# Altium footprint library TerminalBlock_Phoenix.PcbLib: 114 footprints (part 2 of 8)
Each footprint in its own frame and in the unit in brackets; x right, y up, seen from the top. Pads: shape width x height; smd on the part's side, far side on the other; paste and mask are expansions set on the pad; w line width, h text height; cw(c..) or ccw(c..) is an arc to the next point about the centre after c.
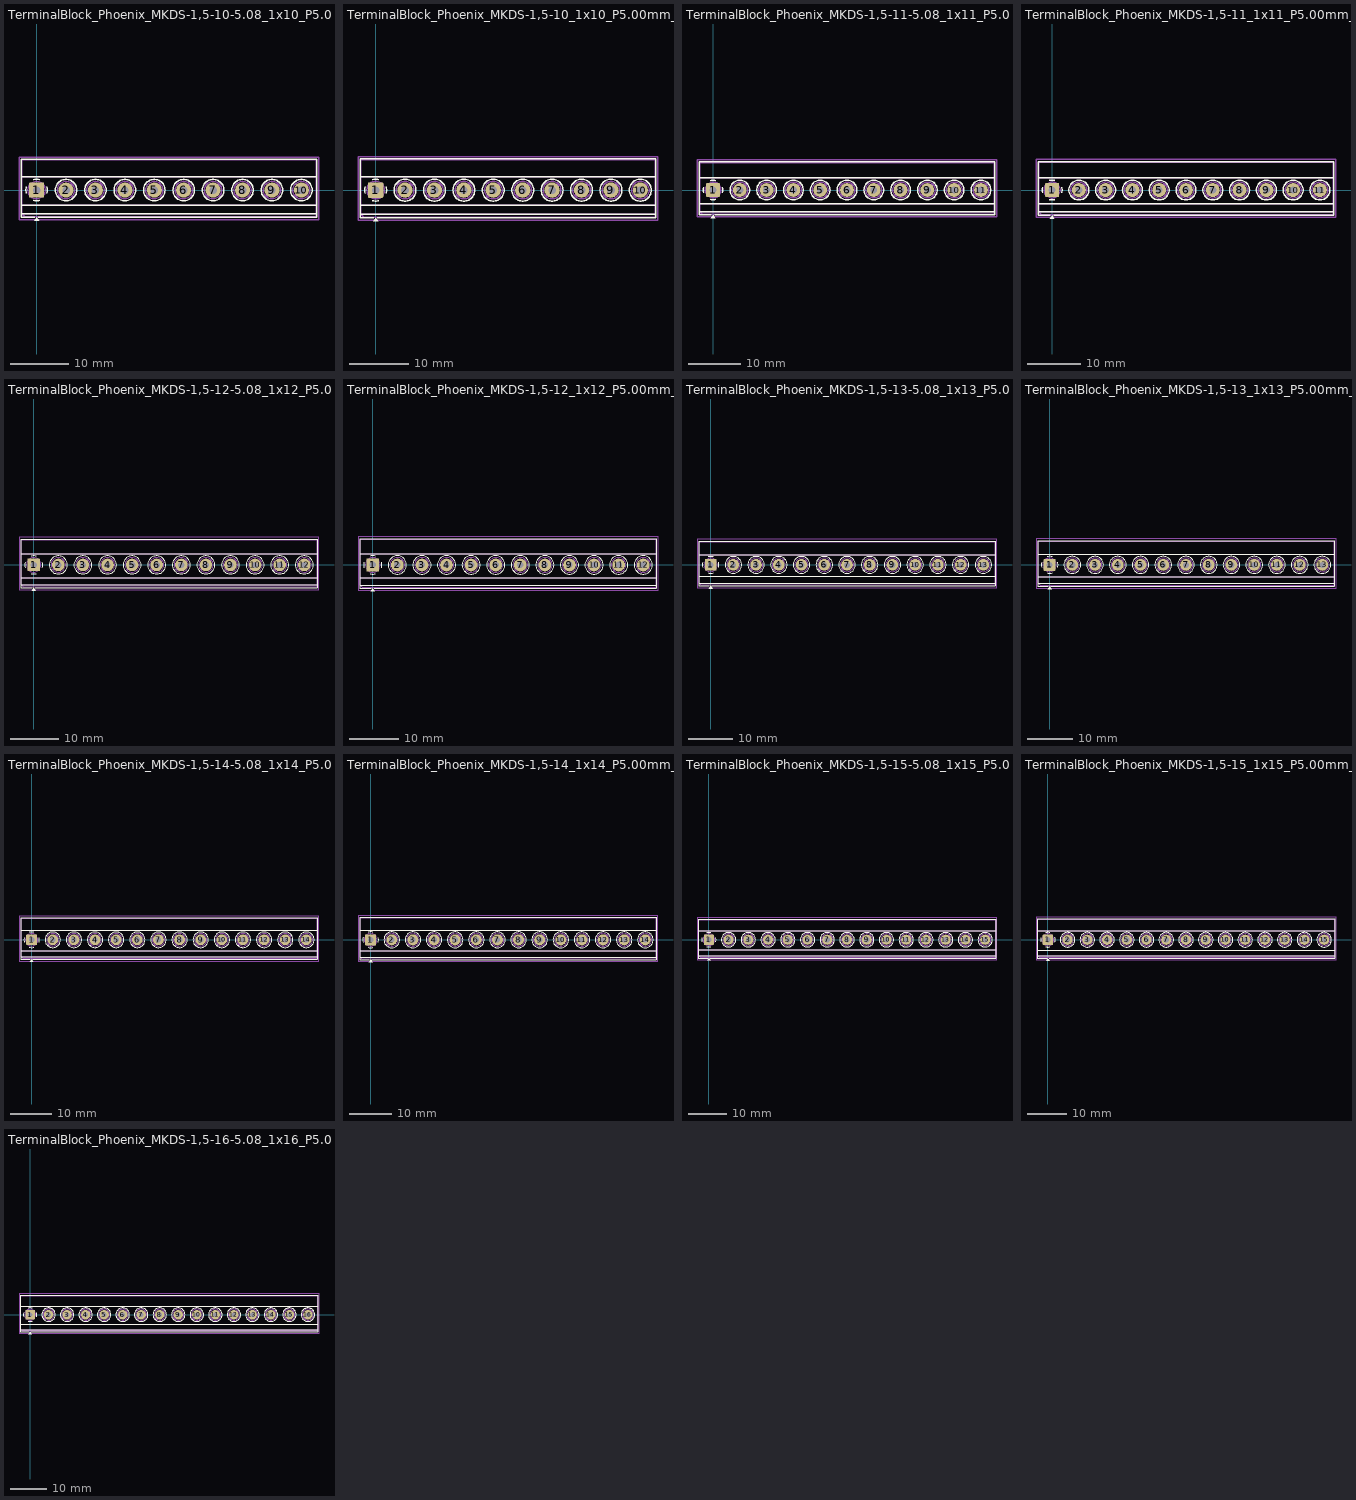
[diagram p1: the footprints below, top view; thin cyan lines are the x and y axes]

## TerminalBlock_Phoenix_MKDS-1,5-10-5.08_1x10_P5.08mm_Horizontal [mm]
pads (10):
  rrect10% 2.6x2.6 hole 1.3: 1(0,0)
  round 2.6 hole 1.3: 2(5.08,0) 3(10.16,0) 4(15.24,0) 5(20.32,0) 6(25.4,0) 7(30.48,0) 8(35.56,0) 9(40.64,0) 10(45.72,0)
F.SilkS:
  circle w0.254: c5.08,0 r1.86
  circle w0.254: c10.16,0 r1.86
  circle w0.254: c15.24,0 r1.86
  circle w0.254: c20.32,0 r1.86
  circle w0.254: c25.4,0 r1.86
  circle w0.254: c30.48,0 r1.86
  circle w0.254: c35.56,0 r1.86
  circle w0.254: c40.64,0 r1.86
  circle w0.254: c45.72,0 r1.86
  region: 0.44,-5.33 -0.44,-5.33 0,-4.72
  lines w0.254: -2.66,-4.1 48.38,-4.1 ; -2.66,-2.6 48.38,-2.6 ; -2.66,2.3 48.38,2.3 ; -1.78,-0.54 cw(c0,0) -1.78,0.539 ; -0.539,-1.78 ccw(c0,0) 0.54,-1.78 ; -0.54,1.78 cw(c0,0) 0.539,1.78 ; -0.3,-4.72 -2.66,-4.72 -2.66,5.32 48.38,5.32 48.38,-4.72 0.3,-4.72 ; 1.78,-0.539 ccw(c0,0) 1.78,0.54 ; 3.669,-1.183 3.713,-1.14 ; 3.896,-1.41 3.94,-1.367 ; 6.22,1.367 6.264,1.411 ; 6.447,1.14 6.491,1.184 ; 8.749,-1.183 8.793,-1.14 ; 8.976,-1.41 9.02,-1.367 ; 11.3,1.367 11.344,1.411 ; 11.527,1.14 11.571,1.184 ; 13.829,-1.183 13.873,-1.14 ; 14.056,-1.41 14.1,-1.367 ; 16.38,1.367 16.424,1.411 ; 16.607,1.14 16.651,1.184 ; 18.909,-1.183 18.953,-1.14 ; 19.136,-1.41 19.18,-1.367 ; 21.46,1.367 21.504,1.411 ; 21.687,1.14 21.731,1.184 ; 23.989,-1.183 24.033,-1.14 ; 24.216,-1.41 24.26,-1.367 ; 26.54,1.367 26.584,1.411 ; 26.767,1.14 26.811,1.184 ; 29.069,-1.183 29.113,-1.14 ; 29.296,-1.41 29.34,-1.367 ; 31.62,1.367 31.664,1.411 ; 31.847,1.14 31.891,1.184 ; 34.149,-1.183 34.193,-1.14 ; 34.376,-1.41 34.42,-1.367 ; 36.7,1.367 36.744,1.411 ; 36.927,1.14 36.971,1.184 ; 39.229,-1.183 39.273,-1.14 ; 39.456,-1.41 39.5,-1.367 ; 41.78,1.367 41.824,1.411 ; 42.007,1.14 42.051,1.184 ; 44.309,-1.183 44.353,-1.14 ; 44.536,-1.41 44.58,-1.367 ; 46.86,1.367 46.904,1.411 ; 47.087,1.14 47.131,1.184
F.CrtYd:
  lines w0.254: -3.04,-5.1 -3.04,5.71 48.76,5.71 48.76,-5.1 -3.04,-5.1
F.Fab:
  circle w0.254: c0,0 r1.5
  circle w0.254: c5.08,0 r1.5
  circle w0.254: c10.16,0 r1.5
  circle w0.254: c15.24,0 r1.5
  circle w0.254: c20.32,0 r1.5
  circle w0.254: c25.4,0 r1.5
  circle w0.254: c30.48,0 r1.5
  circle w0.254: c35.56,0 r1.5
  circle w0.254: c40.64,0 r1.5
  circle w0.254: c45.72,0 r1.5
  lines w0.254: -2.54,-2.6 48.26,-2.6 ; -2.54,2.3 48.26,2.3 ; -1.138,-0.954 0.955,1.138 ; -0.955,-1.137 1.138,0.954 ; 3.942,-0.954 6.035,1.138 ; 4.125,-1.137 6.218,0.954 ; 9.022,-0.954 11.115,1.138 ; 9.205,-1.137 11.298,0.954 ; 14.102,-0.954 16.195,1.138 ; 14.285,-1.137 16.378,0.954 ; 19.182,-0.954 21.275,1.138 ; 19.365,-1.137 21.458,0.954 ; 24.262,-0.954 26.355,1.138 ; 24.445,-1.137 26.538,0.954 ; 29.342,-0.954 31.435,1.138 ; 29.525,-1.137 31.618,0.954 ; 34.422,-0.954 36.515,1.138 ; 34.605,-1.137 36.698,0.954 ; 39.502,-0.954 41.595,1.138 ; 39.685,-1.137 41.778,0.954 ; 44.582,-0.954 46.675,1.138 ; 44.765,-1.137 46.858,0.954 ; 48.26,-4.1 -2.54,-4.1 ; -2.54,-4.1 -2.54,5.2 48.26,5.2 48.26,-4.6 -2.04,-4.6 -2.54,-4.1
  text "'.Designator'" at 21.421,-3.598 h1

## TerminalBlock_Phoenix_MKDS-1,5-10_1x10_P5.00mm_Horizontal [mm]
pads (10):
  rrect10% 2.6x2.6 hole 1.3: 1(0,0)
  round 2.6 hole 1.3: 2(5,0) 3(10,0) 4(15,0) 5(20,0) 6(25,0) 7(30,0) 8(35,0) 9(40,0) 10(45,0)
F.SilkS:
  circle w0.254: c5,0 r1.86
  circle w0.254: c10,0 r1.86
  circle w0.254: c15,0 r1.86
  circle w0.254: c20,0 r1.86
  circle w0.254: c25,0 r1.86
  circle w0.254: c30,0 r1.86
  circle w0.254: c35,0 r1.86
  circle w0.254: c40,0 r1.86
  circle w0.254: c45,0 r1.86
  region: 0.44,-5.33 -0.44,-5.33 0,-4.72
  lines w0.254: -2.62,-4.1 47.62,-4.1 ; -2.62,-2.6 47.62,-2.6 ; -2.62,2.3 47.62,2.3 ; -1.78,-0.54 cw(c0,0) -1.78,0.539 ; -0.539,-1.78 ccw(c0,0) 0.54,-1.78 ; -0.54,1.78 cw(c0,0) 0.539,1.78 ; -0.3,-4.72 -2.62,-4.72 -2.62,5.32 47.62,5.32 47.62,-4.72 0.3,-4.72 ; 1.78,-0.539 ccw(c0,0) 1.78,0.54 ; 3.589,-1.183 3.633,-1.14 ; 3.816,-1.41 3.86,-1.367 ; 6.14,1.367 6.184,1.411 ; 6.367,1.14 6.411,1.184 ; 8.589,-1.183 8.633,-1.14 ; 8.816,-1.41 8.86,-1.367 ; 11.14,1.367 11.184,1.411 ; 11.367,1.14 11.411,1.184 ; 13.589,-1.183 13.633,-1.14 ; 13.816,-1.41 13.86,-1.367 ; 16.14,1.367 16.184,1.411 ; 16.367,1.14 16.411,1.184 ; 18.589,-1.183 18.633,-1.14 ; 18.816,-1.41 18.86,-1.367 ; 21.14,1.367 21.184,1.411 ; 21.367,1.14 21.411,1.184 ; 23.589,-1.183 23.633,-1.14 ; 23.816,-1.41 23.86,-1.367 ; 26.14,1.367 26.184,1.411 ; 26.367,1.14 26.411,1.184 ; 28.589,-1.183 28.633,-1.14 ; 28.816,-1.41 28.86,-1.367 ; 31.14,1.367 31.184,1.411 ; 31.367,1.14 31.411,1.184 ; 33.589,-1.183 33.633,-1.14 ; 33.816,-1.41 33.86,-1.367 ; 36.14,1.367 36.184,1.411 ; 36.367,1.14 36.411,1.184 ; 38.589,-1.183 38.633,-1.14 ; 38.816,-1.41 38.86,-1.367 ; 41.14,1.367 41.184,1.411 ; 41.367,1.14 41.411,1.184 ; 43.589,-1.183 43.633,-1.14 ; 43.816,-1.41 43.86,-1.367 ; 46.14,1.367 46.184,1.411 ; 46.367,1.14 46.411,1.184
F.CrtYd:
  lines w0.254: -3,-5.1 -3,5.71 48,5.71 48,-5.1 -3,-5.1
F.Fab:
  circle w0.254: c0,0 r1.5
  circle w0.254: c5,0 r1.5
  circle w0.254: c10,0 r1.5
  circle w0.254: c15,0 r1.5
  circle w0.254: c20,0 r1.5
  circle w0.254: c25,0 r1.5
  circle w0.254: c30,0 r1.5
  circle w0.254: c35,0 r1.5
  circle w0.254: c40,0 r1.5
  circle w0.254: c45,0 r1.5
  lines w0.254: -2.5,-2.6 47.5,-2.6 ; -2.5,2.3 47.5,2.3 ; -1.138,-0.954 0.955,1.138 ; -0.955,-1.137 1.138,0.954 ; 3.862,-0.954 5.955,1.138 ; 4.045,-1.137 6.138,0.954 ; 8.862,-0.954 10.955,1.138 ; 9.045,-1.137 11.138,0.954 ; 13.862,-0.954 15.955,1.138 ; 14.045,-1.137 16.138,0.954 ; 18.862,-0.954 20.955,1.138 ; 19.045,-1.137 21.138,0.954 ; 23.862,-0.954 25.955,1.138 ; 24.045,-1.137 26.138,0.954 ; 28.862,-0.954 30.955,1.138 ; 29.045,-1.137 31.138,0.954 ; 33.862,-0.954 35.955,1.138 ; 34.045,-1.137 36.138,0.954 ; 38.862,-0.954 40.955,1.138 ; 39.045,-1.137 41.138,0.954 ; 43.862,-0.954 45.955,1.138 ; 44.045,-1.137 46.138,0.954 ; 47.5,-4.1 -2.5,-4.1 ; -2.5,-4.1 -2.5,5.2 47.5,5.2 47.5,-4.6 -2,-4.6 -2.5,-4.1
  text "'.Designator'" at 21.061,-3.598 h1

## TerminalBlock_Phoenix_MKDS-1,5-11-5.08_1x11_P5.08mm_Horizontal [mm]
pads (11):
  rrect10% 2.6x2.6 hole 1.3: 1(0,0)
  round 2.6 hole 1.3: 2(5.08,0) 3(10.16,0) 4(15.24,0) 5(20.32,0) 6(25.4,0) 7(30.48,0) 8(35.56,0) 9(40.64,0) 10(45.72,0) 11(50.8,0)
F.SilkS:
  circle w0.254: c5.08,0 r1.86
  circle w0.254: c10.16,0 r1.86
  circle w0.254: c15.24,0 r1.86
  circle w0.254: c20.32,0 r1.86
  circle w0.254: c25.4,0 r1.86
  circle w0.254: c30.48,0 r1.86
  circle w0.254: c35.56,0 r1.86
  circle w0.254: c40.64,0 r1.86
  circle w0.254: c45.72,0 r1.86
  circle w0.254: c50.8,0 r1.86
  region: 0.44,-5.33 -0.44,-5.33 0,-4.72
  lines w0.254: -2.66,-4.1 53.46,-4.1 ; -2.66,-2.6 53.46,-2.6 ; -2.66,2.3 53.46,2.3 ; -1.78,-0.54 cw(c0,0) -1.78,0.539 ; -0.539,-1.78 ccw(c0,0) 0.54,-1.78 ; -0.54,1.78 cw(c0,0) 0.539,1.78 ; -0.3,-4.72 -2.66,-4.72 -2.66,5.32 53.46,5.32 53.46,-4.72 0.3,-4.72 ; 1.78,-0.539 ccw(c0,0) 1.78,0.54 ; 3.669,-1.183 3.713,-1.14 ; 3.896,-1.41 3.94,-1.367 ; 6.22,1.367 6.264,1.411 ; 6.447,1.14 6.491,1.184 ; 8.749,-1.183 8.793,-1.14 ; 8.976,-1.41 9.02,-1.367 ; 11.3,1.367 11.344,1.411 ; 11.527,1.14 11.571,1.184 ; 13.829,-1.183 13.873,-1.14 ; 14.056,-1.41 14.1,-1.367 ; 16.38,1.367 16.424,1.411 ; 16.607,1.14 16.651,1.184 ; 18.909,-1.183 18.953,-1.14 ; 19.136,-1.41 19.18,-1.367 ; 21.46,1.367 21.504,1.411 ; 21.687,1.14 21.731,1.184 ; 23.989,-1.183 24.033,-1.14 ; 24.216,-1.41 24.26,-1.367 ; 26.54,1.367 26.584,1.411 ; 26.767,1.14 26.811,1.184 ; 29.069,-1.183 29.113,-1.14 ; 29.296,-1.41 29.34,-1.367 ; 31.62,1.367 31.664,1.411 ; 31.847,1.14 31.891,1.184 ; 34.149,-1.183 34.193,-1.14 ; 34.376,-1.41 34.42,-1.367 ; 36.7,1.367 36.744,1.411 ; 36.927,1.14 36.971,1.184 ; 39.229,-1.183 39.273,-1.14 ; 39.456,-1.41 39.5,-1.367 ; 41.78,1.367 41.824,1.411 ; 42.007,1.14 42.051,1.184 ; 44.309,-1.183 44.353,-1.14 ; 44.536,-1.41 44.58,-1.367 ; 46.86,1.367 46.904,1.411 ; 47.087,1.14 47.131,1.184 ; 49.389,-1.183 49.433,-1.14 ; 49.616,-1.41 49.66,-1.367 ; 51.94,1.367 51.984,1.411 ; 52.167,1.14 52.211,1.184
F.CrtYd:
  lines w0.254: -3.04,-5.1 -3.04,5.71 53.84,5.71 53.84,-5.1 -3.04,-5.1
F.Fab:
  circle w0.254: c0,0 r1.5
  circle w0.254: c5.08,0 r1.5
  circle w0.254: c10.16,0 r1.5
  circle w0.254: c15.24,0 r1.5
  circle w0.254: c20.32,0 r1.5
  circle w0.254: c25.4,0 r1.5
  circle w0.254: c30.48,0 r1.5
  circle w0.254: c35.56,0 r1.5
  circle w0.254: c40.64,0 r1.5
  circle w0.254: c45.72,0 r1.5
  circle w0.254: c50.8,0 r1.5
  lines w0.254: -2.54,-2.6 53.34,-2.6 ; -2.54,2.3 53.34,2.3 ; -1.138,-0.954 0.955,1.138 ; -0.955,-1.137 1.138,0.954 ; 3.942,-0.954 6.035,1.138 ; 4.125,-1.137 6.218,0.954 ; 9.022,-0.954 11.115,1.138 ; 9.205,-1.137 11.298,0.954 ; 14.102,-0.954 16.195,1.138 ; 14.285,-1.137 16.378,0.954 ; 19.182,-0.954 21.275,1.138 ; 19.365,-1.137 21.458,0.954 ; 24.262,-0.954 26.355,1.138 ; 24.445,-1.137 26.538,0.954 ; 29.342,-0.954 31.435,1.138 ; 29.525,-1.137 31.618,0.954 ; 34.422,-0.954 36.515,1.138 ; 34.605,-1.137 36.698,0.954 ; 39.502,-0.954 41.595,1.138 ; 39.685,-1.137 41.778,0.954 ; 44.582,-0.954 46.675,1.138 ; 44.765,-1.137 46.858,0.954 ; 49.662,-0.954 51.755,1.138 ; 49.845,-1.137 51.938,0.954 ; 53.34,-4.1 -2.54,-4.1 ; -2.54,-4.1 -2.54,5.2 53.34,5.2 53.34,-4.6 -2.04,-4.6 -2.54,-4.1
  text "'.Designator'" at 23.961,-3.598 h1

## TerminalBlock_Phoenix_MKDS-1,5-11_1x11_P5.00mm_Horizontal [mm]
pads (11):
  rrect10% 2.6x2.6 hole 1.3: 1(0,0)
  round 2.6 hole 1.3: 2(5,0) 3(10,0) 4(15,0) 5(20,0) 6(25,0) 7(30,0) 8(35,0) 9(40,0) 10(45,0) 11(50,0)
F.SilkS:
  circle w0.254: c5,0 r1.86
  circle w0.254: c10,0 r1.86
  circle w0.254: c15,0 r1.86
  circle w0.254: c20,0 r1.86
  circle w0.254: c25,0 r1.86
  circle w0.254: c30,0 r1.86
  circle w0.254: c35,0 r1.86
  circle w0.254: c40,0 r1.86
  circle w0.254: c45,0 r1.86
  circle w0.254: c50,0 r1.86
  region: 0.44,-5.33 -0.44,-5.33 0,-4.72
  lines w0.254: -2.62,-4.1 52.62,-4.1 ; -2.62,-2.6 52.62,-2.6 ; -2.62,2.3 52.62,2.3 ; -1.78,-0.54 cw(c0,0) -1.78,0.539 ; -0.539,-1.78 ccw(c0,0) 0.54,-1.78 ; -0.54,1.78 cw(c0,0) 0.539,1.78 ; -0.3,-4.72 -2.62,-4.72 -2.62,5.32 52.62,5.32 52.62,-4.72 0.3,-4.72 ; 1.78,-0.539 ccw(c0,0) 1.78,0.54 ; 3.589,-1.183 3.633,-1.14 ; 3.816,-1.41 3.86,-1.367 ; 6.14,1.367 6.184,1.411 ; 6.367,1.14 6.411,1.184 ; 8.589,-1.183 8.633,-1.14 ; 8.816,-1.41 8.86,-1.367 ; 11.14,1.367 11.184,1.411 ; 11.367,1.14 11.411,1.184 ; 13.589,-1.183 13.633,-1.14 ; 13.816,-1.41 13.86,-1.367 ; 16.14,1.367 16.184,1.411 ; 16.367,1.14 16.411,1.184 ; 18.589,-1.183 18.633,-1.14 ; 18.816,-1.41 18.86,-1.367 ; 21.14,1.367 21.184,1.411 ; 21.367,1.14 21.411,1.184 ; 23.589,-1.183 23.633,-1.14 ; 23.816,-1.41 23.86,-1.367 ; 26.14,1.367 26.184,1.411 ; 26.367,1.14 26.411,1.184 ; 28.589,-1.183 28.633,-1.14 ; 28.816,-1.41 28.86,-1.367 ; 31.14,1.367 31.184,1.411 ; 31.367,1.14 31.411,1.184 ; 33.589,-1.183 33.633,-1.14 ; 33.816,-1.41 33.86,-1.367 ; 36.14,1.367 36.184,1.411 ; 36.367,1.14 36.411,1.184 ; 38.589,-1.183 38.633,-1.14 ; 38.816,-1.41 38.86,-1.367 ; 41.14,1.367 41.184,1.411 ; 41.367,1.14 41.411,1.184 ; 43.589,-1.183 43.633,-1.14 ; 43.816,-1.41 43.86,-1.367 ; 46.14,1.367 46.184,1.411 ; 46.367,1.14 46.411,1.184 ; 48.589,-1.183 48.633,-1.14 ; 48.816,-1.41 48.86,-1.367 ; 51.14,1.367 51.184,1.411 ; 51.367,1.14 51.411,1.184
F.CrtYd:
  lines w0.254: -3,-5.1 -3,5.71 53,5.71 53,-5.1 -3,-5.1
F.Fab:
  circle w0.254: c0,0 r1.5
  circle w0.254: c5,0 r1.5
  circle w0.254: c10,0 r1.5
  circle w0.254: c15,0 r1.5
  circle w0.254: c20,0 r1.5
  circle w0.254: c25,0 r1.5
  circle w0.254: c30,0 r1.5
  circle w0.254: c35,0 r1.5
  circle w0.254: c40,0 r1.5
  circle w0.254: c45,0 r1.5
  circle w0.254: c50,0 r1.5
  lines w0.254: -2.5,-2.6 52.5,-2.6 ; -2.5,2.3 52.5,2.3 ; -1.138,-0.954 0.955,1.138 ; -0.955,-1.137 1.138,0.954 ; 3.862,-0.954 5.955,1.138 ; 4.045,-1.137 6.138,0.954 ; 8.862,-0.954 10.955,1.138 ; 9.045,-1.137 11.138,0.954 ; 13.862,-0.954 15.955,1.138 ; 14.045,-1.137 16.138,0.954 ; 18.862,-0.954 20.955,1.138 ; 19.045,-1.137 21.138,0.954 ; 23.862,-0.954 25.955,1.138 ; 24.045,-1.137 26.138,0.954 ; 28.862,-0.954 30.955,1.138 ; 29.045,-1.137 31.138,0.954 ; 33.862,-0.954 35.955,1.138 ; 34.045,-1.137 36.138,0.954 ; 38.862,-0.954 40.955,1.138 ; 39.045,-1.137 41.138,0.954 ; 43.862,-0.954 45.955,1.138 ; 44.045,-1.137 46.138,0.954 ; 48.862,-0.954 50.955,1.138 ; 49.045,-1.137 51.138,0.954 ; 52.5,-4.1 -2.5,-4.1 ; -2.5,-4.1 -2.5,5.2 52.5,5.2 52.5,-4.6 -2,-4.6 -2.5,-4.1
  text "'.Designator'" at 23.561,-3.598 h1

## TerminalBlock_Phoenix_MKDS-1,5-12-5.08_1x12_P5.08mm_Horizontal [mm]
pads (12):
  rrect10% 2.6x2.6 hole 1.3: 1(0,0)
  round 2.6 hole 1.3: 2(5.08,0) 3(10.16,0) 4(15.24,0) 5(20.32,0) 6(25.4,0) 7(30.48,0) 8(35.56,0) 9(40.64,0) 10(45.72,0) 11(50.8,0) 12(55.88,0)
F.SilkS:
  circle w0.254: c5.08,0 r1.86
  circle w0.254: c10.16,0 r1.86
  circle w0.254: c15.24,0 r1.86
  circle w0.254: c20.32,0 r1.86
  circle w0.254: c25.4,0 r1.86
  circle w0.254: c30.48,0 r1.86
  circle w0.254: c35.56,0 r1.86
  circle w0.254: c40.64,0 r1.86
  circle w0.254: c45.72,0 r1.86
  circle w0.254: c50.8,0 r1.86
  circle w0.254: c55.88,0 r1.86
  region: 0.44,-5.33 -0.44,-5.33 0,-4.72
  lines w0.254: -2.66,-4.1 58.54,-4.1 ; -2.66,-2.6 58.54,-2.6 ; -2.66,2.3 58.54,2.3 ; -1.78,-0.54 cw(c0,0) -1.78,0.539 ; -0.539,-1.78 ccw(c0,0) 0.54,-1.78 ; -0.54,1.78 cw(c0,0) 0.539,1.78 ; -0.3,-4.72 -2.66,-4.72 -2.66,5.32 58.54,5.32 58.54,-4.72 0.3,-4.72 ; 1.78,-0.539 ccw(c0,0) 1.78,0.54 ; 3.669,-1.183 3.713,-1.14 ; 3.896,-1.41 3.94,-1.367 ; 6.22,1.367 6.264,1.411 ; 6.447,1.14 6.491,1.184 ; 8.749,-1.183 8.793,-1.14 ; 8.976,-1.41 9.02,-1.367 ; 11.3,1.367 11.344,1.411 ; 11.527,1.14 11.571,1.184 ; 13.829,-1.183 13.873,-1.14 ; 14.056,-1.41 14.1,-1.367 ; 16.38,1.367 16.424,1.411 ; 16.607,1.14 16.651,1.184 ; 18.909,-1.183 18.953,-1.14 ; 19.136,-1.41 19.18,-1.367 ; 21.46,1.367 21.504,1.411 ; 21.687,1.14 21.731,1.184 ; 23.989,-1.183 24.033,-1.14 ; 24.216,-1.41 24.26,-1.367 ; 26.54,1.367 26.584,1.411 ; 26.767,1.14 26.811,1.184 ; 29.069,-1.183 29.113,-1.14 ; 29.296,-1.41 29.34,-1.367 ; 31.62,1.367 31.664,1.411 ; 31.847,1.14 31.891,1.184 ; 34.149,-1.183 34.193,-1.14 ; 34.376,-1.41 34.42,-1.367 ; 36.7,1.367 36.744,1.411 ; 36.927,1.14 36.971,1.184 ; 39.229,-1.183 39.273,-1.14 ; 39.456,-1.41 39.5,-1.367 ; 41.78,1.367 41.824,1.411 ; 42.007,1.14 42.051,1.184 ; 44.309,-1.183 44.353,-1.14 ; 44.536,-1.41 44.58,-1.367 ; 46.86,1.367 46.904,1.411 ; 47.087,1.14 47.131,1.184 ; 49.389,-1.183 49.433,-1.14 ; 49.616,-1.41 49.66,-1.367 ; 51.94,1.367 51.984,1.411 ; 52.167,1.14 52.211,1.184 ; 54.469,-1.183 54.513,-1.14 ; 54.696,-1.41 54.74,-1.367 ; 57.02,1.367 57.064,1.411 ; 57.247,1.14 57.291,1.184
F.CrtYd:
  lines w0.254: -3.04,-5.1 -3.04,5.71 58.92,5.71 58.92,-5.1 -3.04,-5.1
F.Fab:
  circle w0.254: c0,0 r1.5
  circle w0.254: c5.08,0 r1.5
  circle w0.254: c10.16,0 r1.5
  circle w0.254: c15.24,0 r1.5
  circle w0.254: c20.32,0 r1.5
  circle w0.254: c25.4,0 r1.5
  circle w0.254: c30.48,0 r1.5
  circle w0.254: c35.56,0 r1.5
  circle w0.254: c40.64,0 r1.5
  circle w0.254: c45.72,0 r1.5
  circle w0.254: c50.8,0 r1.5
  circle w0.254: c55.88,0 r1.5
  lines w0.254: -2.54,-2.6 58.42,-2.6 ; -2.54,2.3 58.42,2.3 ; -1.138,-0.954 0.955,1.138 ; -0.955,-1.137 1.138,0.954 ; 3.942,-0.954 6.035,1.138 ; 4.125,-1.137 6.218,0.954 ; 9.022,-0.954 11.115,1.138 ; 9.205,-1.137 11.298,0.954 ; 14.102,-0.954 16.195,1.138 ; 14.285,-1.137 16.378,0.954 ; 19.182,-0.954 21.275,1.138 ; 19.365,-1.137 21.458,0.954 ; 24.262,-0.954 26.355,1.138 ; 24.445,-1.137 26.538,0.954 ; 29.342,-0.954 31.435,1.138 ; 29.525,-1.137 31.618,0.954 ; 34.422,-0.954 36.515,1.138 ; 34.605,-1.137 36.698,0.954 ; 39.502,-0.954 41.595,1.138 ; 39.685,-1.137 41.778,0.954 ; 44.582,-0.954 46.675,1.138 ; 44.765,-1.137 46.858,0.954 ; 49.662,-0.954 51.755,1.138 ; 49.845,-1.137 51.938,0.954 ; 54.742,-0.954 56.835,1.138 ; 54.925,-1.137 57.018,0.954 ; 58.42,-4.1 -2.54,-4.1 ; -2.54,-4.1 -2.54,5.2 58.42,5.2 58.42,-4.6 -2.04,-4.6 -2.54,-4.1
  text "'.Designator'" at 26.501,-3.598 h1

## TerminalBlock_Phoenix_MKDS-1,5-12_1x12_P5.00mm_Horizontal [mm]
pads (12):
  rrect10% 2.6x2.6 hole 1.3: 1(0,0)
  round 2.6 hole 1.3: 2(5,0) 3(10,0) 4(15,0) 5(20,0) 6(25,0) 7(30,0) 8(35,0) 9(40,0) 10(45,0) 11(50,0) 12(55,0)
F.SilkS:
  circle w0.254: c5,0 r1.86
  circle w0.254: c10,0 r1.86
  circle w0.254: c15,0 r1.86
  circle w0.254: c20,0 r1.86
  circle w0.254: c25,0 r1.86
  circle w0.254: c30,0 r1.86
  circle w0.254: c35,0 r1.86
  circle w0.254: c40,0 r1.86
  circle w0.254: c45,0 r1.86
  circle w0.254: c50,0 r1.86
  circle w0.254: c55,0 r1.86
  region: 0.44,-5.33 -0.44,-5.33 0,-4.72
  lines w0.254: -2.62,-4.1 57.62,-4.1 ; -2.62,-2.6 57.62,-2.6 ; -2.62,2.3 57.62,2.3 ; -1.78,-0.54 cw(c0,0) -1.78,0.539 ; -0.539,-1.78 ccw(c0,0) 0.54,-1.78 ; -0.54,1.78 cw(c0,0) 0.539,1.78 ; -0.3,-4.72 -2.62,-4.72 -2.62,5.32 57.62,5.32 57.62,-4.72 0.3,-4.72 ; 1.78,-0.539 ccw(c0,0) 1.78,0.54 ; 3.589,-1.183 3.633,-1.14 ; 3.816,-1.41 3.86,-1.367 ; 6.14,1.367 6.184,1.411 ; 6.367,1.14 6.411,1.184 ; 8.589,-1.183 8.633,-1.14 ; 8.816,-1.41 8.86,-1.367 ; 11.14,1.367 11.184,1.411 ; 11.367,1.14 11.411,1.184 ; 13.589,-1.183 13.633,-1.14 ; 13.816,-1.41 13.86,-1.367 ; 16.14,1.367 16.184,1.411 ; 16.367,1.14 16.411,1.184 ; 18.589,-1.183 18.633,-1.14 ; 18.816,-1.41 18.86,-1.367 ; 21.14,1.367 21.184,1.411 ; 21.367,1.14 21.411,1.184 ; 23.589,-1.183 23.633,-1.14 ; 23.816,-1.41 23.86,-1.367 ; 26.14,1.367 26.184,1.411 ; 26.367,1.14 26.411,1.184 ; 28.589,-1.183 28.633,-1.14 ; 28.816,-1.41 28.86,-1.367 ; 31.14,1.367 31.184,1.411 ; 31.367,1.14 31.411,1.184 ; 33.589,-1.183 33.633,-1.14 ; 33.816,-1.41 33.86,-1.367 ; 36.14,1.367 36.184,1.411 ; 36.367,1.14 36.411,1.184 ; 38.589,-1.183 38.633,-1.14 ; 38.816,-1.41 38.86,-1.367 ; 41.14,1.367 41.184,1.411 ; 41.367,1.14 41.411,1.184 ; 43.589,-1.183 43.633,-1.14 ; 43.816,-1.41 43.86,-1.367 ; 46.14,1.367 46.184,1.411 ; 46.367,1.14 46.411,1.184 ; 48.589,-1.183 48.633,-1.14 ; 48.816,-1.41 48.86,-1.367 ; 51.14,1.367 51.184,1.411 ; 51.367,1.14 51.411,1.184 ; 53.589,-1.183 53.633,-1.14 ; 53.816,-1.41 53.86,-1.367 ; 56.14,1.367 56.184,1.411 ; 56.367,1.14 56.411,1.184
F.CrtYd:
  lines w0.254: -3,-5.1 -3,5.71 58,5.71 58,-5.1 -3,-5.1
F.Fab:
  circle w0.254: c0,0 r1.5
  circle w0.254: c5,0 r1.5
  circle w0.254: c10,0 r1.5
  circle w0.254: c15,0 r1.5
  circle w0.254: c20,0 r1.5
  circle w0.254: c25,0 r1.5
  circle w0.254: c30,0 r1.5
  circle w0.254: c35,0 r1.5
  circle w0.254: c40,0 r1.5
  circle w0.254: c45,0 r1.5
  circle w0.254: c50,0 r1.5
  circle w0.254: c55,0 r1.5
  lines w0.254: -2.5,-2.6 57.5,-2.6 ; -2.5,2.3 57.5,2.3 ; -1.138,-0.954 0.955,1.138 ; -0.955,-1.137 1.138,0.954 ; 3.862,-0.954 5.955,1.138 ; 4.045,-1.137 6.138,0.954 ; 8.862,-0.954 10.955,1.138 ; 9.045,-1.137 11.138,0.954 ; 13.862,-0.954 15.955,1.138 ; 14.045,-1.137 16.138,0.954 ; 18.862,-0.954 20.955,1.138 ; 19.045,-1.137 21.138,0.954 ; 23.862,-0.954 25.955,1.138 ; 24.045,-1.137 26.138,0.954 ; 28.862,-0.954 30.955,1.138 ; 29.045,-1.137 31.138,0.954 ; 33.862,-0.954 35.955,1.138 ; 34.045,-1.137 36.138,0.954 ; 38.862,-0.954 40.955,1.138 ; 39.045,-1.137 41.138,0.954 ; 43.862,-0.954 45.955,1.138 ; 44.045,-1.137 46.138,0.954 ; 48.862,-0.954 50.955,1.138 ; 49.045,-1.137 51.138,0.954 ; 53.862,-0.954 55.955,1.138 ; 54.045,-1.137 56.138,0.954 ; 57.5,-4.1 -2.5,-4.1 ; -2.5,-4.1 -2.5,5.2 57.5,5.2 57.5,-4.6 -2,-4.6 -2.5,-4.1
  text "'.Designator'" at 26.061,-3.598 h1

## TerminalBlock_Phoenix_MKDS-1,5-13-5.08_1x13_P5.08mm_Horizontal [mm]
pads (13):
  rrect10% 2.6x2.6 hole 1.3: 1(0,0)
  round 2.6 hole 1.3: 2(5.08,0) 3(10.16,0) 4(15.24,0) 5(20.32,0) 6(25.4,0) 7(30.48,0) 8(35.56,0) 9(40.64,0) 10(45.72,0) 11(50.8,0) 12(55.88,0) 13(60.96,0)
F.SilkS:
  circle w0.254: c5.08,0 r1.86
  circle w0.254: c10.16,0 r1.86
  circle w0.254: c15.24,0 r1.86
  circle w0.254: c20.32,0 r1.86
  circle w0.254: c25.4,0 r1.86
  circle w0.254: c30.48,0 r1.86
  circle w0.254: c35.56,0 r1.86
  circle w0.254: c40.64,0 r1.86
  circle w0.254: c45.72,0 r1.86
  circle w0.254: c50.8,0 r1.86
  circle w0.254: c55.88,0 r1.86
  circle w0.254: c60.96,0 r1.86
  region: 0.44,-5.33 -0.44,-5.33 0,-4.72
  lines w0.254: -2.66,-4.1 63.62,-4.1 ; -2.66,-2.6 63.62,-2.6 ; -2.66,2.3 63.62,2.3 ; -1.78,-0.54 cw(c0,0) -1.78,0.539 ; -0.539,-1.78 ccw(c0,0) 0.54,-1.78 ; -0.54,1.78 cw(c0,0) 0.539,1.78 ; -0.3,-4.72 -2.66,-4.72 -2.66,5.32 63.62,5.32 63.62,-4.72 0.3,-4.72 ; 1.78,-0.539 ccw(c0,0) 1.78,0.54 ; 3.669,-1.183 3.713,-1.14 ; 3.896,-1.41 3.94,-1.367 ; 6.22,1.367 6.264,1.411 ; 6.447,1.14 6.491,1.184 ; 8.749,-1.183 8.793,-1.14 ; 8.976,-1.41 9.02,-1.367 ; 11.3,1.367 11.344,1.411 ; 11.527,1.14 11.571,1.184 ; 13.829,-1.183 13.873,-1.14 ; 14.056,-1.41 14.1,-1.367 ; 16.38,1.367 16.424,1.411 ; 16.607,1.14 16.651,1.184 ; 18.909,-1.183 18.953,-1.14 ; 19.136,-1.41 19.18,-1.367 ; 21.46,1.367 21.504,1.411 ; 21.687,1.14 21.731,1.184 ; 23.989,-1.183 24.033,-1.14 ; 24.216,-1.41 24.26,-1.367 ; 26.54,1.367 26.584,1.411 ; 26.767,1.14 26.811,1.184 ; 29.069,-1.183 29.113,-1.14 ; 29.296,-1.41 29.34,-1.367 ; 31.62,1.367 31.664,1.411 ; 31.847,1.14 31.891,1.184 ; 34.149,-1.183 34.193,-1.14 ; 34.376,-1.41 34.42,-1.367 ; 36.7,1.367 36.744,1.411 ; 36.927,1.14 36.971,1.184 ; 39.229,-1.183 39.273,-1.14 ; 39.456,-1.41 39.5,-1.367 ; 41.78,1.367 41.824,1.411 ; 42.007,1.14 42.051,1.184 ; 44.309,-1.183 44.353,-1.14 ; 44.536,-1.41 44.58,-1.367 ; 46.86,1.367 46.904,1.411 ; 47.087,1.14 47.131,1.184 ; 49.389,-1.183 49.433,-1.14 ; 49.616,-1.41 49.66,-1.367 ; 51.94,1.367 51.984,1.411 ; 52.167,1.14 52.211,1.184 ; 54.469,-1.183 54.513,-1.14 ; 54.696,-1.41 54.74,-1.367 ; 57.02,1.367 57.064,1.411 ; 57.247,1.14 57.291,1.184 ; 59.549,-1.183 59.593,-1.14 ; 59.776,-1.41 59.82,-1.367 ; 62.1,1.367 62.144,1.411 ; 62.327,1.14 62.371,1.184
F.CrtYd:
  lines w0.254: -3.04,-5.1 -3.04,5.71 64,5.71 64,-5.1 -3.04,-5.1
F.Fab:
  circle w0.254: c0,0 r1.5
  circle w0.254: c5.08,0 r1.5
  circle w0.254: c10.16,0 r1.5
  circle w0.254: c15.24,0 r1.5
  circle w0.254: c20.32,0 r1.5
  circle w0.254: c25.4,0 r1.5
  circle w0.254: c30.48,0 r1.5
  circle w0.254: c35.56,0 r1.5
  circle w0.254: c40.64,0 r1.5
  circle w0.254: c45.72,0 r1.5
  circle w0.254: c50.8,0 r1.5
  circle w0.254: c55.88,0 r1.5
  circle w0.254: c60.96,0 r1.5
  lines w0.254: -2.54,-2.6 63.5,-2.6 ; -2.54,2.3 63.5,2.3 ; -1.138,-0.954 0.955,1.138 ; -0.955,-1.137 1.138,0.954 ; 3.942,-0.954 6.035,1.138 ; 4.125,-1.137 6.218,0.954 ; 9.022,-0.954 11.115,1.138 ; 9.205,-1.137 11.298,0.954 ; 14.102,-0.954 16.195,1.138 ; 14.285,-1.137 16.378,0.954 ; 19.182,-0.954 21.275,1.138 ; 19.365,-1.137 21.458,0.954 ; 24.262,-0.954 26.355,1.138 ; 24.445,-1.137 26.538,0.954 ; 29.342,-0.954 31.435,1.138 ; 29.525,-1.137 31.618,0.954 ; 34.422,-0.954 36.515,1.138 ; 34.605,-1.137 36.698,0.954 ; 39.502,-0.954 41.595,1.138 ; 39.685,-1.137 41.778,0.954 ; 44.582,-0.954 46.675,1.138 ; 44.765,-1.137 46.858,0.954 ; 49.662,-0.954 51.755,1.138 ; 49.845,-1.137 51.938,0.954 ; 54.742,-0.954 56.835,1.138 ; 54.925,-1.137 57.018,0.954 ; 59.822,-0.954 61.915,1.138 ; 60.005,-1.137 62.098,0.954 ; 63.5,-4.1 -2.54,-4.1 ; -2.54,-4.1 -2.54,5.2 63.5,5.2 63.5,-4.6 -2.04,-4.6 -2.54,-4.1
  text "'.Designator'" at 29.041,-3.598 h1

## TerminalBlock_Phoenix_MKDS-1,5-13_1x13_P5.00mm_Horizontal [mm]
pads (13):
  rrect10% 2.6x2.6 hole 1.3: 1(0,0)
  round 2.6 hole 1.3: 2(5,0) 3(10,0) 4(15,0) 5(20,0) 6(25,0) 7(30,0) 8(35,0) 9(40,0) 10(45,0) 11(50,0) 12(55,0) 13(60,0)
F.SilkS:
  circle w0.254: c5,0 r1.86
  circle w0.254: c10,0 r1.86
  circle w0.254: c15,0 r1.86
  circle w0.254: c20,0 r1.86
  circle w0.254: c25,0 r1.86
  circle w0.254: c30,0 r1.86
  circle w0.254: c35,0 r1.86
  circle w0.254: c40,0 r1.86
  circle w0.254: c45,0 r1.86
  circle w0.254: c50,0 r1.86
  circle w0.254: c55,0 r1.86
  circle w0.254: c60,0 r1.86
  region: 0.44,-5.33 -0.44,-5.33 0,-4.72
  lines w0.254: -2.62,-4.1 62.62,-4.1 ; -2.62,-2.6 62.62,-2.6 ; -2.62,2.3 62.62,2.3 ; -1.78,-0.54 cw(c0,0) -1.78,0.539 ; -0.539,-1.78 ccw(c0,0) 0.54,-1.78 ; -0.54,1.78 cw(c0,0) 0.539,1.78 ; -0.3,-4.72 -2.62,-4.72 -2.62,5.32 62.62,5.32 62.62,-4.72 0.3,-4.72 ; 1.78,-0.539 ccw(c0,0) 1.78,0.54 ; 3.589,-1.183 3.633,-1.14 ; 3.816,-1.41 3.86,-1.367 ; 6.14,1.367 6.184,1.411 ; 6.367,1.14 6.411,1.184 ; 8.589,-1.183 8.633,-1.14 ; 8.816,-1.41 8.86,-1.367 ; 11.14,1.367 11.184,1.411 ; 11.367,1.14 11.411,1.184 ; 13.589,-1.183 13.633,-1.14 ; 13.816,-1.41 13.86,-1.367 ; 16.14,1.367 16.184,1.411 ; 16.367,1.14 16.411,1.184 ; 18.589,-1.183 18.633,-1.14 ; 18.816,-1.41 18.86,-1.367 ; 21.14,1.367 21.184,1.411 ; 21.367,1.14 21.411,1.184 ; 23.589,-1.183 23.633,-1.14 ; 23.816,-1.41 23.86,-1.367 ; 26.14,1.367 26.184,1.411 ; 26.367,1.14 26.411,1.184 ; 28.589,-1.183 28.633,-1.14 ; 28.816,-1.41 28.86,-1.367 ; 31.14,1.367 31.184,1.411 ; 31.367,1.14 31.411,1.184 ; 33.589,-1.183 33.633,-1.14 ; 33.816,-1.41 33.86,-1.367 ; 36.14,1.367 36.184,1.411 ; 36.367,1.14 36.411,1.184 ; 38.589,-1.183 38.633,-1.14 ; 38.816,-1.41 38.86,-1.367 ; 41.14,1.367 41.184,1.411 ; 41.367,1.14 41.411,1.184 ; 43.589,-1.183 43.633,-1.14 ; 43.816,-1.41 43.86,-1.367 ; 46.14,1.367 46.184,1.411 ; 46.367,1.14 46.411,1.184 ; 48.589,-1.183 48.633,-1.14 ; 48.816,-1.41 48.86,-1.367 ; 51.14,1.367 51.184,1.411 ; 51.367,1.14 51.411,1.184 ; 53.589,-1.183 53.633,-1.14 ; 53.816,-1.41 53.86,-1.367 ; 56.14,1.367 56.184,1.411 ; 56.367,1.14 56.411,1.184 ; 58.589,-1.183 58.633,-1.14 ; 58.816,-1.41 58.86,-1.367 ; 61.14,1.367 61.184,1.411 ; 61.367,1.14 61.411,1.184
F.CrtYd:
  lines w0.254: -3,-5.1 -3,5.71 63,5.71 63,-5.1 -3,-5.1
F.Fab:
  circle w0.254: c0,0 r1.5
  circle w0.254: c5,0 r1.5
  circle w0.254: c10,0 r1.5
  circle w0.254: c15,0 r1.5
  circle w0.254: c20,0 r1.5
  circle w0.254: c25,0 r1.5
  circle w0.254: c30,0 r1.5
  circle w0.254: c35,0 r1.5
  circle w0.254: c40,0 r1.5
  circle w0.254: c45,0 r1.5
  circle w0.254: c50,0 r1.5
  circle w0.254: c55,0 r1.5
  circle w0.254: c60,0 r1.5
  lines w0.254: -2.5,-2.6 62.5,-2.6 ; -2.5,2.3 62.5,2.3 ; -1.138,-0.954 0.955,1.138 ; -0.955,-1.137 1.138,0.954 ; 3.862,-0.954 5.955,1.138 ; 4.045,-1.137 6.138,0.954 ; 8.862,-0.954 10.955,1.138 ; 9.045,-1.137 11.138,0.954 ; 13.862,-0.954 15.955,1.138 ; 14.045,-1.137 16.138,0.954 ; 18.862,-0.954 20.955,1.138 ; 19.045,-1.137 21.138,0.954 ; 23.862,-0.954 25.955,1.138 ; 24.045,-1.137 26.138,0.954 ; 28.862,-0.954 30.955,1.138 ; 29.045,-1.137 31.138,0.954 ; 33.862,-0.954 35.955,1.138 ; 34.045,-1.137 36.138,0.954 ; 38.862,-0.954 40.955,1.138 ; 39.045,-1.137 41.138,0.954 ; 43.862,-0.954 45.955,1.138 ; 44.045,-1.137 46.138,0.954 ; 48.862,-0.954 50.955,1.138 ; 49.045,-1.137 51.138,0.954 ; 53.862,-0.954 55.955,1.138 ; 54.045,-1.137 56.138,0.954 ; 58.862,-0.954 60.955,1.138 ; 59.045,-1.137 61.138,0.954 ; 62.5,-4.1 -2.5,-4.1 ; -2.5,-4.1 -2.5,5.2 62.5,5.2 62.5,-4.6 -2,-4.6 -2.5,-4.1
  text "'.Designator'" at 28.561,-3.598 h1

## TerminalBlock_Phoenix_MKDS-1,5-14-5.08_1x14_P5.08mm_Horizontal [mm]
pads (14):
  rrect10% 2.6x2.6 hole 1.3: 1(0,0)
  round 2.6 hole 1.3: 2(5.08,0) 3(10.16,0) 4(15.24,0) 5(20.32,0) 6(25.4,0) 7(30.48,0) 8(35.56,0) 9(40.64,0) 10(45.72,0) 11(50.8,0) 12(55.88,0) 13(60.96,0) 14(66.04,0)
F.SilkS:
  circle w0.254: c5.08,0 r1.86
  circle w0.254: c10.16,0 r1.86
  circle w0.254: c15.24,0 r1.86
  circle w0.254: c20.32,0 r1.86
  circle w0.254: c25.4,0 r1.86
  circle w0.254: c30.48,0 r1.86
  circle w0.254: c35.56,0 r1.86
  circle w0.254: c40.64,0 r1.86
  circle w0.254: c45.72,0 r1.86
  circle w0.254: c50.8,0 r1.86
  circle w0.254: c55.88,0 r1.86
  circle w0.254: c60.96,0 r1.86
  circle w0.254: c66.04,0 r1.86
  region: 0.44,-5.33 -0.44,-5.33 0,-4.72
  lines w0.254: -2.66,-4.1 68.7,-4.1 ; -2.66,-2.6 68.7,-2.6 ; -2.66,2.3 68.7,2.3 ; -1.78,-0.54 cw(c0,0) -1.78,0.539 ; -0.539,-1.78 ccw(c0,0) 0.54,-1.78 ; -0.54,1.78 cw(c0,0) 0.539,1.78 ; -0.3,-4.72 -2.66,-4.72 -2.66,5.32 68.7,5.32 68.7,-4.72 0.3,-4.72 ; 1.78,-0.539 ccw(c0,0) 1.78,0.54 ; 3.669,-1.183 3.713,-1.14 ; 3.896,-1.41 3.94,-1.367 ; 6.22,1.367 6.264,1.411 ; 6.447,1.14 6.491,1.184 ; 8.749,-1.183 8.793,-1.14 ; 8.976,-1.41 9.02,-1.367 ; 11.3,1.367 11.344,1.411 ; 11.527,1.14 11.571,1.184 ; 13.829,-1.183 13.873,-1.14 ; 14.056,-1.41 14.1,-1.367 ; 16.38,1.367 16.424,1.411 ; 16.607,1.14 16.651,1.184 ; 18.909,-1.183 18.953,-1.14 ; 19.136,-1.41 19.18,-1.367 ; 21.46,1.367 21.504,1.411 ; 21.687,1.14 21.731,1.184 ; 23.989,-1.183 24.033,-1.14 ; 24.216,-1.41 24.26,-1.367 ; 26.54,1.367 26.584,1.411 ; 26.767,1.14 26.811,1.184 ; 29.069,-1.183 29.113,-1.14 ; 29.296,-1.41 29.34,-1.367 ; 31.62,1.367 31.664,1.411 ; 31.847,1.14 31.891,1.184 ; 34.149,-1.183 34.193,-1.14 ; 34.376,-1.41 34.42,-1.367 ; 36.7,1.367 36.744,1.411 ; 36.927,1.14 36.971,1.184 ; 39.229,-1.183 39.273,-1.14 ; 39.456,-1.41 39.5,-1.367 ; 41.78,1.367 41.824,1.411 ; 42.007,1.14 42.051,1.184 ; 44.309,-1.183 44.353,-1.14 ; 44.536,-1.41 44.58,-1.367 ; 46.86,1.367 46.904,1.411 ; 47.087,1.14 47.131,1.184 ; 49.389,-1.183 49.433,-1.14 ; 49.616,-1.41 49.66,-1.367 ; 51.94,1.367 51.984,1.411 ; 52.167,1.14 52.211,1.184 ; 54.469,-1.183 54.513,-1.14 ; 54.696,-1.41 54.74,-1.367 ; 57.02,1.367 57.064,1.411 ; 57.247,1.14 57.291,1.184 ; 59.549,-1.183 59.593,-1.14 ; 59.776,-1.41 59.82,-1.367 ; 62.1,1.367 62.144,1.411 ; 62.327,1.14 62.371,1.184 ; 64.629,-1.183 64.673,-1.14 ; 64.856,-1.41 64.9,-1.367 ; 67.18,1.367 67.224,1.411 ; 67.407,1.14 67.451,1.184
F.CrtYd:
  lines w0.254: -3.04,-5.1 -3.04,5.71 69.08,5.71 69.08,-5.1 -3.04,-5.1
F.Fab:
  circle w0.254: c0,0 r1.5
  circle w0.254: c5.08,0 r1.5
  circle w0.254: c10.16,0 r1.5
  circle w0.254: c15.24,0 r1.5
  circle w0.254: c20.32,0 r1.5
  circle w0.254: c25.4,0 r1.5
  circle w0.254: c30.48,0 r1.5
  circle w0.254: c35.56,0 r1.5
  circle w0.254: c40.64,0 r1.5
  circle w0.254: c45.72,0 r1.5
  circle w0.254: c50.8,0 r1.5
  circle w0.254: c55.88,0 r1.5
  circle w0.254: c60.96,0 r1.5
  circle w0.254: c66.04,0 r1.5
  lines w0.254: -2.54,-2.6 68.58,-2.6 ; -2.54,2.3 68.58,2.3 ; -1.138,-0.954 0.955,1.138 ; -0.955,-1.137 1.138,0.954 ; 3.942,-0.954 6.035,1.138 ; 4.125,-1.137 6.218,0.954 ; 9.022,-0.954 11.115,1.138 ; 9.205,-1.137 11.298,0.954 ; 14.102,-0.954 16.195,1.138 ; 14.285,-1.137 16.378,0.954 ; 19.182,-0.954 21.275,1.138 ; 19.365,-1.137 21.458,0.954 ; 24.262,-0.954 26.355,1.138 ; 24.445,-1.137 26.538,0.954 ; 29.342,-0.954 31.435,1.138 ; 29.525,-1.137 31.618,0.954 ; 34.422,-0.954 36.515,1.138 ; 34.605,-1.137 36.698,0.954 ; 39.502,-0.954 41.595,1.138 ; 39.685,-1.137 41.778,0.954 ; 44.582,-0.954 46.675,1.138 ; 44.765,-1.137 46.858,0.954 ; 49.662,-0.954 51.755,1.138 ; 49.845,-1.137 51.938,0.954 ; 54.742,-0.954 56.835,1.138 ; 54.925,-1.137 57.018,0.954 ; 59.822,-0.954 61.915,1.138 ; 60.005,-1.137 62.098,0.954 ; 64.902,-0.954 66.995,1.138 ; 65.085,-1.137 67.178,0.954 ; 68.58,-4.1 -2.54,-4.1 ; -2.54,-4.1 -2.54,5.2 68.58,5.2 68.58,-4.6 -2.04,-4.6 -2.54,-4.1
  text "'.Designator'" at 31.581,-3.598 h1

## TerminalBlock_Phoenix_MKDS-1,5-14_1x14_P5.00mm_Horizontal [mm]
pads (14):
  rrect10% 2.6x2.6 hole 1.3: 1(0,0)
  round 2.6 hole 1.3: 2(5,0) 3(10,0) 4(15,0) 5(20,0) 6(25,0) 7(30,0) 8(35,0) 9(40,0) 10(45,0) 11(50,0) 12(55,0) 13(60,0) 14(65,0)
F.SilkS:
  circle w0.254: c5,0 r1.86
  circle w0.254: c10,0 r1.86
  circle w0.254: c15,0 r1.86
  circle w0.254: c20,0 r1.86
  circle w0.254: c25,0 r1.86
  circle w0.254: c30,0 r1.86
  circle w0.254: c35,0 r1.86
  circle w0.254: c40,0 r1.86
  circle w0.254: c45,0 r1.86
  circle w0.254: c50,0 r1.86
  circle w0.254: c55,0 r1.86
  circle w0.254: c60,0 r1.86
  circle w0.254: c65,0 r1.86
  region: 0.44,-5.33 -0.44,-5.33 0,-4.72
  lines w0.254: -2.62,-4.1 67.62,-4.1 ; -2.62,-2.6 67.62,-2.6 ; -2.62,2.3 67.62,2.3 ; -1.78,-0.54 cw(c0,0) -1.78,0.539 ; -0.539,-1.78 ccw(c0,0) 0.54,-1.78 ; -0.54,1.78 cw(c0,0) 0.539,1.78 ; -0.3,-4.72 -2.62,-4.72 -2.62,5.32 67.62,5.32 67.62,-4.72 0.3,-4.72 ; 1.78,-0.539 ccw(c0,0) 1.78,0.54 ; 3.589,-1.183 3.633,-1.14 ; 3.816,-1.41 3.86,-1.367 ; 6.14,1.367 6.184,1.411 ; 6.367,1.14 6.411,1.184 ; 8.589,-1.183 8.633,-1.14 ; 8.816,-1.41 8.86,-1.367 ; 11.14,1.367 11.184,1.411 ; 11.367,1.14 11.411,1.184 ; 13.589,-1.183 13.633,-1.14 ; 13.816,-1.41 13.86,-1.367 ; 16.14,1.367 16.184,1.411 ; 16.367,1.14 16.411,1.184 ; 18.589,-1.183 18.633,-1.14 ; 18.816,-1.41 18.86,-1.367 ; 21.14,1.367 21.184,1.411 ; 21.367,1.14 21.411,1.184 ; 23.589,-1.183 23.633,-1.14 ; 23.816,-1.41 23.86,-1.367 ; 26.14,1.367 26.184,1.411 ; 26.367,1.14 26.411,1.184 ; 28.589,-1.183 28.633,-1.14 ; 28.816,-1.41 28.86,-1.367 ; 31.14,1.367 31.184,1.411 ; 31.367,1.14 31.411,1.184 ; 33.589,-1.183 33.633,-1.14 ; 33.816,-1.41 33.86,-1.367 ; 36.14,1.367 36.184,1.411 ; 36.367,1.14 36.411,1.184 ; 38.589,-1.183 38.633,-1.14 ; 38.816,-1.41 38.86,-1.367 ; 41.14,1.367 41.184,1.411 ; 41.367,1.14 41.411,1.184 ; 43.589,-1.183 43.633,-1.14 ; 43.816,-1.41 43.86,-1.367 ; 46.14,1.367 46.184,1.411 ; 46.367,1.14 46.411,1.184 ; 48.589,-1.183 48.633,-1.14 ; 48.816,-1.41 48.86,-1.367 ; 51.14,1.367 51.184,1.411 ; 51.367,1.14 51.411,1.184 ; 53.589,-1.183 53.633,-1.14 ; 53.816,-1.41 53.86,-1.367 ; 56.14,1.367 56.184,1.411 ; 56.367,1.14 56.411,1.184 ; 58.589,-1.183 58.633,-1.14 ; 58.816,-1.41 58.86,-1.367 ; 61.14,1.367 61.184,1.411 ; 61.367,1.14 61.411,1.184 ; 63.589,-1.183 63.633,-1.14 ; 63.816,-1.41 63.86,-1.367 ; 66.14,1.367 66.184,1.411 ; 66.367,1.14 66.411,1.184
F.CrtYd:
  lines w0.254: -3,-5.1 -3,5.71 68,5.71 68,-5.1 -3,-5.1
F.Fab:
  circle w0.254: c0,0 r1.5
  circle w0.254: c5,0 r1.5
  circle w0.254: c10,0 r1.5
  circle w0.254: c15,0 r1.5
  circle w0.254: c20,0 r1.5
  circle w0.254: c25,0 r1.5
  circle w0.254: c30,0 r1.5
  circle w0.254: c35,0 r1.5
  circle w0.254: c40,0 r1.5
  circle w0.254: c45,0 r1.5
  circle w0.254: c50,0 r1.5
  circle w0.254: c55,0 r1.5
  circle w0.254: c60,0 r1.5
  circle w0.254: c65,0 r1.5
  lines w0.254: -2.5,-2.6 67.5,-2.6 ; -2.5,2.3 67.5,2.3 ; -1.138,-0.954 0.955,1.138 ; -0.955,-1.137 1.138,0.954 ; 3.862,-0.954 5.955,1.138 ; 4.045,-1.137 6.138,0.954 ; 8.862,-0.954 10.955,1.138 ; 9.045,-1.137 11.138,0.954 ; 13.862,-0.954 15.955,1.138 ; 14.045,-1.137 16.138,0.954 ; 18.862,-0.954 20.955,1.138 ; 19.045,-1.137 21.138,0.954 ; 23.862,-0.954 25.955,1.138 ; 24.045,-1.137 26.138,0.954 ; 28.862,-0.954 30.955,1.138 ; 29.045,-1.137 31.138,0.954 ; 33.862,-0.954 35.955,1.138 ; 34.045,-1.137 36.138,0.954 ; 38.862,-0.954 40.955,1.138 ; 39.045,-1.137 41.138,0.954 ; 43.862,-0.954 45.955,1.138 ; 44.045,-1.137 46.138,0.954 ; 48.862,-0.954 50.955,1.138 ; 49.045,-1.137 51.138,0.954 ; 53.862,-0.954 55.955,1.138 ; 54.045,-1.137 56.138,0.954 ; 58.862,-0.954 60.955,1.138 ; 59.045,-1.137 61.138,0.954 ; 63.862,-0.954 65.955,1.138 ; 64.045,-1.137 66.138,0.954 ; 67.5,-4.1 -2.5,-4.1 ; -2.5,-4.1 -2.5,5.2 67.5,5.2 67.5,-4.6 -2,-4.6 -2.5,-4.1
  text "'.Designator'" at 31.061,-3.598 h1

## TerminalBlock_Phoenix_MKDS-1,5-15-5.08_1x15_P5.08mm_Horizontal [mm]
pads (15):
  rrect10% 2.6x2.6 hole 1.3: 1(0,0)
  round 2.6 hole 1.3: 2(5.08,0) 3(10.16,0) 4(15.24,0) 5(20.32,0) 6(25.4,0) 7(30.48,0) 8(35.56,0) 9(40.64,0) 10(45.72,0) 11(50.8,0) 12(55.88,0) 13(60.96,0) 14(66.04,0) 15(71.12,0)
F.SilkS:
  circle w0.254: c5.08,0 r1.86
  circle w0.254: c10.16,0 r1.86
  circle w0.254: c15.24,0 r1.86
  circle w0.254: c20.32,0 r1.86
  circle w0.254: c25.4,0 r1.86
  circle w0.254: c30.48,0 r1.86
  circle w0.254: c35.56,0 r1.86
  circle w0.254: c40.64,0 r1.86
  circle w0.254: c45.72,0 r1.86
  circle w0.254: c50.8,0 r1.86
  circle w0.254: c55.88,0 r1.86
  circle w0.254: c60.96,0 r1.86
  circle w0.254: c66.04,0 r1.86
  circle w0.254: c71.12,0 r1.86
  region: 0.44,-5.33 -0.44,-5.33 0,-4.72
  lines w0.254: -2.66,-4.1 73.78,-4.1 ; -2.66,-2.6 73.78,-2.6 ; -2.66,2.3 73.78,2.3 ; -1.78,-0.54 cw(c0,0) -1.78,0.539 ; -0.539,-1.78 ccw(c0,0) 0.54,-1.78 ; -0.54,1.78 cw(c0,0) 0.539,1.78 ; -0.3,-4.72 -2.66,-4.72 -2.66,5.32 73.78,5.32 73.78,-4.72 0.3,-4.72 ; 1.78,-0.539 ccw(c0,0) 1.78,0.54 ; 3.669,-1.183 3.713,-1.14 ; 3.896,-1.41 3.94,-1.367 ; 6.22,1.367 6.264,1.411 ; 6.447,1.14 6.491,1.184 ; 8.749,-1.183 8.793,-1.14 ; 8.976,-1.41 9.02,-1.367 ; 11.3,1.367 11.344,1.411 ; 11.527,1.14 11.571,1.184 ; 13.829,-1.183 13.873,-1.14 ; 14.056,-1.41 14.1,-1.367 ; 16.38,1.367 16.424,1.411 ; 16.607,1.14 16.651,1.184 ; 18.909,-1.183 18.953,-1.14 ; 19.136,-1.41 19.18,-1.367 ; 21.46,1.367 21.504,1.411 ; 21.687,1.14 21.731,1.184 ; 23.989,-1.183 24.033,-1.14 ; 24.216,-1.41 24.26,-1.367 ; 26.54,1.367 26.584,1.411 ; 26.767,1.14 26.811,1.184 ; 29.069,-1.183 29.113,-1.14 ; 29.296,-1.41 29.34,-1.367 ; 31.62,1.367 31.664,1.411 ; 31.847,1.14 31.891,1.184 ; 34.149,-1.183 34.193,-1.14 ; 34.376,-1.41 34.42,-1.367 ; 36.7,1.367 36.744,1.411 ; 36.927,1.14 36.971,1.184 ; 39.229,-1.183 39.273,-1.14 ; 39.456,-1.41 39.5,-1.367 ; 41.78,1.367 41.824,1.411 ; 42.007,1.14 42.051,1.184 ; 44.309,-1.183 44.353,-1.14 ; 44.536,-1.41 44.58,-1.367 ; 46.86,1.367 46.904,1.411 ; 47.087,1.14 47.131,1.184 ; 49.389,-1.183 49.433,-1.14 ; 49.616,-1.41 49.66,-1.367 ; 51.94,1.367 51.984,1.411 ; 52.167,1.14 52.211,1.184 ; 54.469,-1.183 54.513,-1.14 ; 54.696,-1.41 54.74,-1.367 ; 57.02,1.367 57.064,1.411 ; 57.247,1.14 57.291,1.184 ; 59.549,-1.183 59.593,-1.14 ; 59.776,-1.41 59.82,-1.367 ; 62.1,1.367 62.144,1.411 ; 62.327,1.14 62.371,1.184 ; 64.629,-1.183 64.673,-1.14 ; 64.856,-1.41 64.9,-1.367 ; 67.18,1.367 67.224,1.411 ; 67.407,1.14 67.451,1.184 ; 69.709,-1.183 69.753,-1.14 ; 69.936,-1.41 69.98,-1.367 ; 72.26,1.367 72.304,1.411 ; 72.487,1.14 72.531,1.184
F.CrtYd:
  lines w0.254: -3.04,-5.1 -3.04,5.71 74.16,5.71 74.16,-5.1 -3.04,-5.1
F.Fab:
  circle w0.254: c0,0 r1.5
  circle w0.254: c5.08,0 r1.5
  circle w0.254: c10.16,0 r1.5
  circle w0.254: c15.24,0 r1.5
  circle w0.254: c20.32,0 r1.5
  circle w0.254: c25.4,0 r1.5
  circle w0.254: c30.48,0 r1.5
  circle w0.254: c35.56,0 r1.5
  circle w0.254: c40.64,0 r1.5
  circle w0.254: c45.72,0 r1.5
  circle w0.254: c50.8,0 r1.5
  circle w0.254: c55.88,0 r1.5
  circle w0.254: c60.96,0 r1.5
  circle w0.254: c66.04,0 r1.5
  circle w0.254: c71.12,0 r1.5
  lines w0.254: -2.54,-2.6 73.66,-2.6 ; -2.54,2.3 73.66,2.3 ; -1.138,-0.954 0.955,1.138 ; -0.955,-1.137 1.138,0.954 ; 3.942,-0.954 6.035,1.138 ; 4.125,-1.137 6.218,0.954 ; 9.022,-0.954 11.115,1.138 ; 9.205,-1.137 11.298,0.954 ; 14.102,-0.954 16.195,1.138 ; 14.285,-1.137 16.378,0.954 ; 19.182,-0.954 21.275,1.138 ; 19.365,-1.137 21.458,0.954 ; 24.262,-0.954 26.355,1.138 ; 24.445,-1.137 26.538,0.954 ; 29.342,-0.954 31.435,1.138 ; 29.525,-1.137 31.618,0.954 ; 34.422,-0.954 36.515,1.138 ; 34.605,-1.137 36.698,0.954 ; 39.502,-0.954 41.595,1.138 ; 39.685,-1.137 41.778,0.954 ; 44.582,-0.954 46.675,1.138 ; 44.765,-1.137 46.858,0.954 ; 49.662,-0.954 51.755,1.138 ; 49.845,-1.137 51.938,0.954 ; 54.742,-0.954 56.835,1.138 ; 54.925,-1.137 57.018,0.954 ; 59.822,-0.954 61.915,1.138 ; 60.005,-1.137 62.098,0.954 ; 64.902,-0.954 66.995,1.138 ; 65.085,-1.137 67.178,0.954 ; 69.982,-0.954 72.075,1.138 ; 70.165,-1.137 72.258,0.954 ; 73.66,-4.1 -2.54,-4.1 ; -2.54,-4.1 -2.54,5.2 73.66,5.2 73.66,-4.6 -2.04,-4.6 -2.54,-4.1
  text "'.Designator'" at 34.121,-3.598 h1

## TerminalBlock_Phoenix_MKDS-1,5-15_1x15_P5.00mm_Horizontal [mm]
pads (15):
  rrect10% 2.6x2.6 hole 1.3: 1(0,0)
  round 2.6 hole 1.3: 2(5,0) 3(10,0) 4(15,0) 5(20,0) 6(25,0) 7(30,0) 8(35,0) 9(40,0) 10(45,0) 11(50,0) 12(55,0) 13(60,0) 14(65,0) 15(70,0)
F.SilkS:
  circle w0.254: c5,0 r1.86
  circle w0.254: c10,0 r1.86
  circle w0.254: c15,0 r1.86
  circle w0.254: c20,0 r1.86
  circle w0.254: c25,0 r1.86
  circle w0.254: c30,0 r1.86
  circle w0.254: c35,0 r1.86
  circle w0.254: c40,0 r1.86
  circle w0.254: c45,0 r1.86
  circle w0.254: c50,0 r1.86
  circle w0.254: c55,0 r1.86
  circle w0.254: c60,0 r1.86
  circle w0.254: c65,0 r1.86
  circle w0.254: c70,0 r1.86
  region: 0.44,-5.33 -0.44,-5.33 0,-4.72
  lines w0.254: -2.62,-4.1 72.62,-4.1 ; -2.62,-2.6 72.62,-2.6 ; -2.62,2.3 72.62,2.3 ; -1.78,-0.54 cw(c0,0) -1.78,0.539 ; -0.539,-1.78 ccw(c0,0) 0.54,-1.78 ; -0.54,1.78 cw(c0,0) 0.539,1.78 ; -0.3,-4.72 -2.62,-4.72 -2.62,5.32 72.62,5.32 72.62,-4.72 0.3,-4.72 ; 1.78,-0.539 ccw(c0,0) 1.78,0.54 ; 3.589,-1.183 3.633,-1.14 ; 3.816,-1.41 3.86,-1.367 ; 6.14,1.367 6.184,1.411 ; 6.367,1.14 6.411,1.184 ; 8.589,-1.183 8.633,-1.14 ; 8.816,-1.41 8.86,-1.367 ; 11.14,1.367 11.184,1.411 ; 11.367,1.14 11.411,1.184 ; 13.589,-1.183 13.633,-1.14 ; 13.816,-1.41 13.86,-1.367 ; 16.14,1.367 16.184,1.411 ; 16.367,1.14 16.411,1.184 ; 18.589,-1.183 18.633,-1.14 ; 18.816,-1.41 18.86,-1.367 ; 21.14,1.367 21.184,1.411 ; 21.367,1.14 21.411,1.184 ; 23.589,-1.183 23.633,-1.14 ; 23.816,-1.41 23.86,-1.367 ; 26.14,1.367 26.184,1.411 ; 26.367,1.14 26.411,1.184 ; 28.589,-1.183 28.633,-1.14 ; 28.816,-1.41 28.86,-1.367 ; 31.14,1.367 31.184,1.411 ; 31.367,1.14 31.411,1.184 ; 33.589,-1.183 33.633,-1.14 ; 33.816,-1.41 33.86,-1.367 ; 36.14,1.367 36.184,1.411 ; 36.367,1.14 36.411,1.184 ; 38.589,-1.183 38.633,-1.14 ; 38.816,-1.41 38.86,-1.367 ; 41.14,1.367 41.184,1.411 ; 41.367,1.14 41.411,1.184 ; 43.589,-1.183 43.633,-1.14 ; 43.816,-1.41 43.86,-1.367 ; 46.14,1.367 46.184,1.411 ; 46.367,1.14 46.411,1.184 ; 48.589,-1.183 48.633,-1.14 ; 48.816,-1.41 48.86,-1.367 ; 51.14,1.367 51.184,1.411 ; 51.367,1.14 51.411,1.184 ; 53.589,-1.183 53.633,-1.14 ; 53.816,-1.41 53.86,-1.367 ; 56.14,1.367 56.184,1.411 ; 56.367,1.14 56.411,1.184 ; 58.589,-1.183 58.633,-1.14 ; 58.816,-1.41 58.86,-1.367 ; 61.14,1.367 61.184,1.411 ; 61.367,1.14 61.411,1.184 ; 63.589,-1.183 63.633,-1.14 ; 63.816,-1.41 63.86,-1.367 ; 66.14,1.367 66.184,1.411 ; 66.367,1.14 66.411,1.184 ; 68.589,-1.183 68.633,-1.14 ; 68.816,-1.41 68.86,-1.367 ; 71.14,1.367 71.184,1.411 ; 71.367,1.14 71.411,1.184
F.CrtYd:
  lines w0.254: -3,-5.1 -3,5.71 73,5.71 73,-5.1 -3,-5.1
F.Fab:
  circle w0.254: c0,0 r1.5
  circle w0.254: c5,0 r1.5
  circle w0.254: c10,0 r1.5
  circle w0.254: c15,0 r1.5
  circle w0.254: c20,0 r1.5
  circle w0.254: c25,0 r1.5
  circle w0.254: c30,0 r1.5
  circle w0.254: c35,0 r1.5
  circle w0.254: c40,0 r1.5
  circle w0.254: c45,0 r1.5
  circle w0.254: c50,0 r1.5
  circle w0.254: c55,0 r1.5
  circle w0.254: c60,0 r1.5
  circle w0.254: c65,0 r1.5
  circle w0.254: c70,0 r1.5
  lines w0.254: -2.5,-2.6 72.5,-2.6 ; -2.5,2.3 72.5,2.3 ; -1.138,-0.954 0.955,1.138 ; -0.955,-1.137 1.138,0.954 ; 3.862,-0.954 5.955,1.138 ; 4.045,-1.137 6.138,0.954 ; 8.862,-0.954 10.955,1.138 ; 9.045,-1.137 11.138,0.954 ; 13.862,-0.954 15.955,1.138 ; 14.045,-1.137 16.138,0.954 ; 18.862,-0.954 20.955,1.138 ; 19.045,-1.137 21.138,0.954 ; 23.862,-0.954 25.955,1.138 ; 24.045,-1.137 26.138,0.954 ; 28.862,-0.954 30.955,1.138 ; 29.045,-1.137 31.138,0.954 ; 33.862,-0.954 35.955,1.138 ; 34.045,-1.137 36.138,0.954 ; 38.862,-0.954 40.955,1.138 ; 39.045,-1.137 41.138,0.954 ; 43.862,-0.954 45.955,1.138 ; 44.045,-1.137 46.138,0.954 ; 48.862,-0.954 50.955,1.138 ; 49.045,-1.137 51.138,0.954 ; 53.862,-0.954 55.955,1.138 ; 54.045,-1.137 56.138,0.954 ; 58.862,-0.954 60.955,1.138 ; 59.045,-1.137 61.138,0.954 ; 63.862,-0.954 65.955,1.138 ; 64.045,-1.137 66.138,0.954 ; 68.862,-0.954 70.955,1.138 ; 69.045,-1.137 71.138,0.954 ; 72.5,-4.1 -2.5,-4.1 ; -2.5,-4.1 -2.5,5.2 72.5,5.2 72.5,-4.6 -2,-4.6 -2.5,-4.1
  text "'.Designator'" at 33.561,-3.598 h1

## TerminalBlock_Phoenix_MKDS-1,5-16-5.08_1x16_P5.08mm_Horizontal [mm]
pads (16):
  rrect10% 2.6x2.6 hole 1.3: 1(0,0)
  round 2.6 hole 1.3: 2(5.08,0) 3(10.16,0) 4(15.24,0) 5(20.32,0) 6(25.4,0) 7(30.48,0) 8(35.56,0) 9(40.64,0) 10(45.72,0) 11(50.8,0) 12(55.88,0) 13(60.96,0) 14(66.04,0) 15(71.12,0) 16(76.2,0)
F.SilkS:
  circle w0.254: c5.08,0 r1.86
  circle w0.254: c10.16,0 r1.86
  circle w0.254: c15.24,0 r1.86
  circle w0.254: c20.32,0 r1.86
  circle w0.254: c25.4,0 r1.86
  circle w0.254: c30.48,0 r1.86
  circle w0.254: c35.56,0 r1.86
  circle w0.254: c40.64,0 r1.86
  circle w0.254: c45.72,0 r1.86
  circle w0.254: c50.8,0 r1.86
  circle w0.254: c55.88,0 r1.86
  circle w0.254: c60.96,0 r1.86
  circle w0.254: c66.04,0 r1.86
  circle w0.254: c71.12,0 r1.86
  circle w0.254: c76.2,0 r1.86
  region: 0.44,-5.33 -0.44,-5.33 0,-4.72
  lines w0.254: -2.66,-4.1 78.86,-4.1 ; -2.66,-2.6 78.86,-2.6 ; -2.66,2.3 78.86,2.3 ; -1.78,-0.54 cw(c0,0) -1.78,0.539 ; -0.539,-1.78 ccw(c0,0) 0.54,-1.78 ; -0.54,1.78 cw(c0,0) 0.539,1.78 ; -0.3,-4.72 -2.66,-4.72 -2.66,5.32 78.86,5.32 78.86,-4.72 0.3,-4.72 ; 1.78,-0.539 ccw(c0,0) 1.78,0.54 ; 3.669,-1.183 3.713,-1.14 ; 3.896,-1.41 3.94,-1.367 ; 6.22,1.367 6.264,1.411 ; 6.447,1.14 6.491,1.184 ; 8.749,-1.183 8.793,-1.14 ; 8.976,-1.41 9.02,-1.367 ; 11.3,1.367 11.344,1.411 ; 11.527,1.14 11.571,1.184 ; 13.829,-1.183 13.873,-1.14 ; 14.056,-1.41 14.1,-1.367 ; 16.38,1.367 16.424,1.411 ; 16.607,1.14 16.651,1.184 ; 18.909,-1.183 18.953,-1.14 ; 19.136,-1.41 19.18,-1.367 ; 21.46,1.367 21.504,1.411 ; 21.687,1.14 21.731,1.184 ; 23.989,-1.183 24.033,-1.14 ; 24.216,-1.41 24.26,-1.367 ; 26.54,1.367 26.584,1.411 ; 26.767,1.14 26.811,1.184 ; 29.069,-1.183 29.113,-1.14 ; 29.296,-1.41 29.34,-1.367 ; 31.62,1.367 31.664,1.411 ; 31.847,1.14 31.891,1.184 ; 34.149,-1.183 34.193,-1.14 ; 34.376,-1.41 34.42,-1.367 ; 36.7,1.367 36.744,1.411 ; 36.927,1.14 36.971,1.184 ; 39.229,-1.183 39.273,-1.14 ; 39.456,-1.41 39.5,-1.367 ; 41.78,1.367 41.824,1.411 ; 42.007,1.14 42.051,1.184 ; 44.309,-1.183 44.353,-1.14 ; 44.536,-1.41 44.58,-1.367 ; 46.86,1.367 46.904,1.411 ; 47.087,1.14 47.131,1.184 ; 49.389,-1.183 49.433,-1.14 ; 49.616,-1.41 49.66,-1.367 ; 51.94,1.367 51.984,1.411 ; 52.167,1.14 52.211,1.184 ; 54.469,-1.183 54.513,-1.14 ; 54.696,-1.41 54.74,-1.367 ; 57.02,1.367 57.064,1.411 ; 57.247,1.14 57.291,1.184 ; 59.549,-1.183 59.593,-1.14 ; 59.776,-1.41 59.82,-1.367 ; 62.1,1.367 62.144,1.411 ; 62.327,1.14 62.371,1.184 ; 64.629,-1.183 64.673,-1.14 ; 64.856,-1.41 64.9,-1.367 ; 67.18,1.367 67.224,1.411 ; 67.407,1.14 67.451,1.184 ; 69.709,-1.183 69.753,-1.14 ; 69.936,-1.41 69.98,-1.367 ; 72.26,1.367 72.304,1.411 ; 72.487,1.14 72.531,1.184 ; 74.789,-1.183 74.833,-1.14 ; 75.016,-1.41 75.06,-1.367 ; 77.34,1.367 77.384,1.411 ; 77.567,1.14 77.611,1.184
F.CrtYd:
  lines w0.254: -3.04,-5.1 -3.04,5.71 79.24,5.71 79.24,-5.1 -3.04,-5.1
F.Fab:
  circle w0.254: c0,0 r1.5
  circle w0.254: c5.08,0 r1.5
  circle w0.254: c10.16,0 r1.5
  circle w0.254: c15.24,0 r1.5
  circle w0.254: c20.32,0 r1.5
  circle w0.254: c25.4,0 r1.5
  circle w0.254: c30.48,0 r1.5
  circle w0.254: c35.56,0 r1.5
  circle w0.254: c40.64,0 r1.5
  circle w0.254: c45.72,0 r1.5
  circle w0.254: c50.8,0 r1.5
  circle w0.254: c55.88,0 r1.5
  circle w0.254: c60.96,0 r1.5
  circle w0.254: c66.04,0 r1.5
  circle w0.254: c71.12,0 r1.5
  circle w0.254: c76.2,0 r1.5
  lines w0.254: -2.54,-2.6 78.74,-2.6 ; -2.54,2.3 78.74,2.3 ; -1.138,-0.954 0.955,1.138 ; -0.955,-1.137 1.138,0.954 ; 3.942,-0.954 6.035,1.138 ; 4.125,-1.137 6.218,0.954 ; 9.022,-0.954 11.115,1.138 ; 9.205,-1.137 11.298,0.954 ; 14.102,-0.954 16.195,1.138 ; 14.285,-1.137 16.378,0.954 ; 19.182,-0.954 21.275,1.138 ; 19.365,-1.137 21.458,0.954 ; 24.262,-0.954 26.355,1.138 ; 24.445,-1.137 26.538,0.954 ; 29.342,-0.954 31.435,1.138 ; 29.525,-1.137 31.618,0.954 ; 34.422,-0.954 36.515,1.138 ; 34.605,-1.137 36.698,0.954 ; 39.502,-0.954 41.595,1.138 ; 39.685,-1.137 41.778,0.954 ; 44.582,-0.954 46.675,1.138 ; 44.765,-1.137 46.858,0.954 ; 49.662,-0.954 51.755,1.138 ; 49.845,-1.137 51.938,0.954 ; 54.742,-0.954 56.835,1.138 ; 54.925,-1.137 57.018,0.954 ; 59.822,-0.954 61.915,1.138 ; 60.005,-1.137 62.098,0.954 ; 64.902,-0.954 66.995,1.138 ; 65.085,-1.137 67.178,0.954 ; 69.982,-0.954 72.075,1.138 ; 70.165,-1.137 72.258,0.954 ; 75.062,-0.954 77.155,1.138 ; 75.245,-1.137 77.338,0.954 ; 78.74,-4.1 -2.54,-4.1 ; -2.54,-4.1 -2.54,5.2 78.74,5.2 78.74,-4.6 -2.04,-4.6 -2.54,-4.1
  text "'.Designator'" at 36.661,-3.598 h1